# EAGLE library part AQV251A (library aoba)
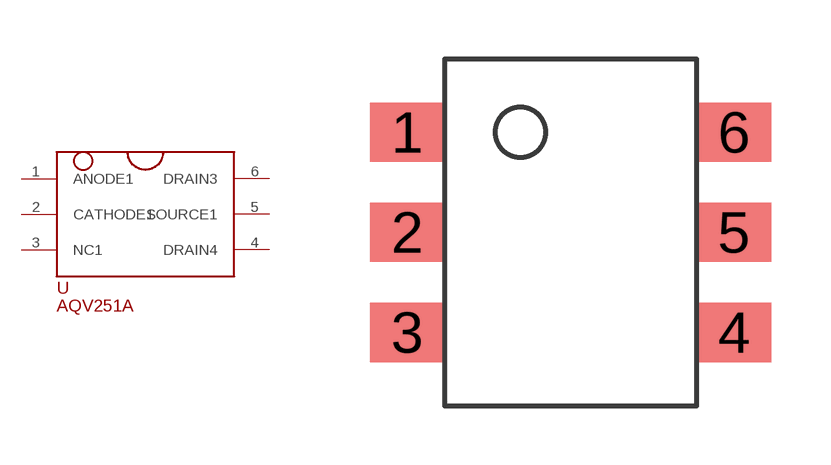
[diagram p12: symbol with the pads of DIP6(SMD); footprint DIP6(SMD)]

Designator prefix -

## AQV251A  [DIP6(SMD)]
1  ANODE1  in
2  CATHODE1  in
3  NC1  nc
4  DRAIN4  pas
5  SOURCE1  pas
6  DRAIN3  pas

## Footprint DIP6(SMD) (pad centres in mm)
smd 1.9 x 1.5: 1 -4.15,2.54; 2 -4.15,0; 3 -4.15,-2.54; 4 4.15,-2.54; 5 4.15,0; 6 4.15,2.54